# EAGLE library part 72309 (library con-usb)
TYPE-A Dual Stacked, Receptacle, FCI 72309-8034B
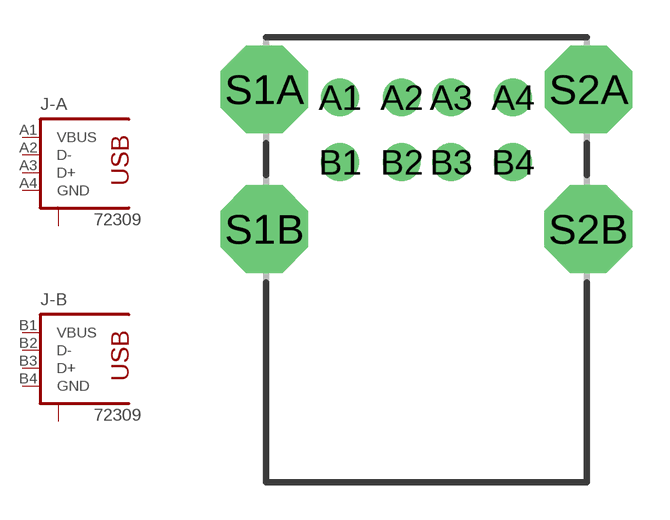
[diagram p0: symbol with the pads of 72309; footprint 72309]

Designator prefix J; gates -A=USB-4P-2S -B=USB-4P-2S

## 72309  [72309]
A1  -A:VBUS  pas
A2  -A:D-  pas
A3  -A:D+  pas
A4  -A:GND  pas
B1  -B:VBUS  pas
B2  -B:D-  pas
B3  -B:D+  pas
B4  -B:GND  pas
S1A  -A:S  pas
S1B  -A:S  pas
S2A  -A:S  pas
S2B  -A:S  pas

## Footprint 72309 (pad centres in mm)
drill 1.016: A1 -3.5,0; A2 -1,0; A3 1,0; A4 3.5,0; B1 -3.5,-2.62; B2 -1,-2.62; B3 1,-2.62; B4 3.5,-2.62
drill 2.54 octagon: S1A -6.57,0.33; S1B -6.57,-5.33; S2A 6.57,0.33; S2B 6.55,-5.33